# Altium footprint library 1053142104.PcbLib: 1 footprints
Each footprint in its own frame and in the unit in brackets; x right, y up, seen from the top. Pads: shape width x height; smd on the part's side, far side on the other; paste and mask are expansions set on the pad; w line width, h text height; cw(c..) or ccw(c..) is an arc to the next point about the centre after c.
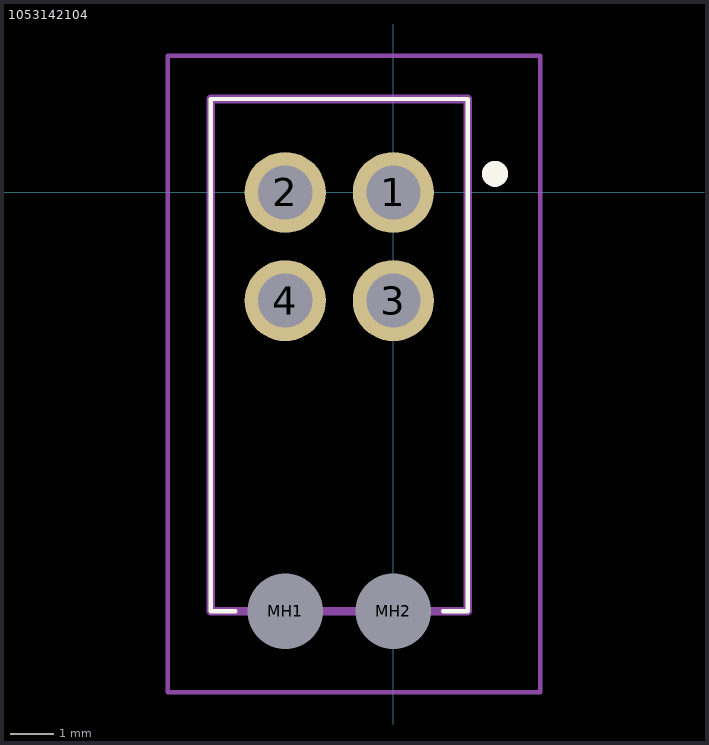
[diagram p0: the footprint, top view; thin cyan lines are the x and y axes]

## 1053142104 [mm]
pads (6):
  round 1.875 hole 1.25: 1(0,0) 2(-2.5,0) 3(0,-2.5) 4(-2.5,-2.5)
  round 0.875 hole 1.75 unplated: MH1(-2.5,-9.68) MH2(0,-9.68)
Top Overlay:
  lines w0.1: -3.65,-9.68 -4.22,-9.68 -4.22,2.16 1.72,2.16 1.72,-9.68 1.15,-9.68
  lines w0.5: 2.35,0.38 2.35,0.38 ; 2.35,0.38 cw(c2.35,0.43) 2.35,0.48 ; 2.35,0.38 ccw(c2.35,0.43) 2.35,0.48 ; 2.35,0.48 2.35,0.48
Mechanical 15:
  lines w0.2: -4.22,-9.68 1.72,-9.68 1.72,2.16 -4.22,2.16 -4.22,-9.68
Mechanical 20:
  lines w0.1: -5.22,-11.555 3.4,-11.555 3.4,3.16 -5.22,3.16 -5.22,-11.555